# Altium footprint library TDFN-8.PcbLib: 1 footprints
Each footprint in its own frame and in the unit in brackets; x right, y up, seen from the top. Pads: shape width x height; smd on the part's side, far side on the other; paste and mask are expansions set on the pad; w line width, h text height; cw(c..) or ccw(c..) is an arc to the next point about the centre after c.
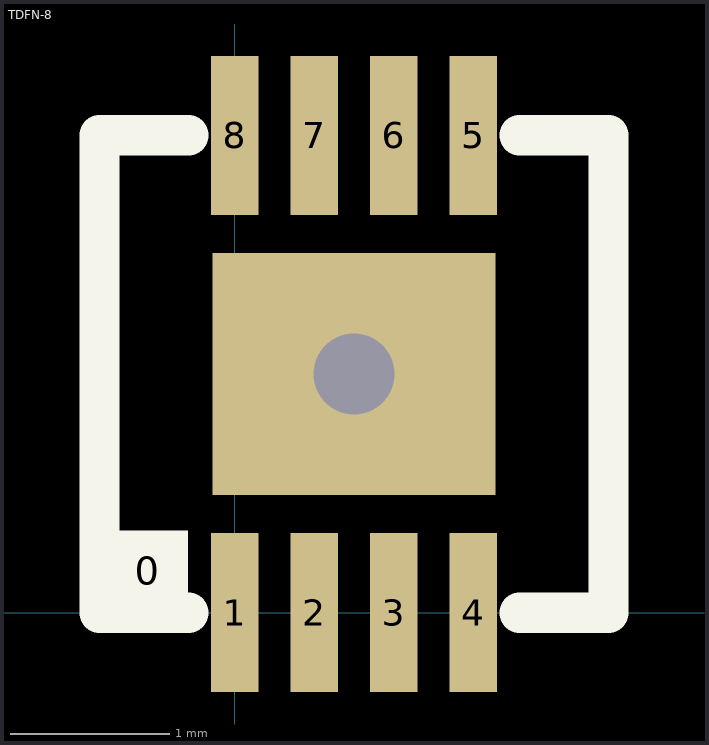
[diagram p0: the footprint, top view; thin cyan lines are the x and y axes]

## TDFN-8 [mm]
height 0.8
pads (10):
  rect 0.508x0.508 on Top Overlay: 0(-0.546,0.263)
  rect 0.3x1 smd: 1(0,0) 2(0.5,0) 3(1,0) 4(1.5,0) 5(1.5,3) 6(1,3) 7(0.5,3) 8(0,3)
  rect 1.778x1.524 / inner round 0.508 / far side round 0.508 hole 0.508: ""(0.75,1.5)
TopOverlay:
  lines w0.254: -0.29,0 -0.85,0 -0.85,3 -0.29,3 ; 1.79,0 2.35,0 2.35,3 1.79,3